# Altium footprint library KX-9A.PcbLib: 1 footprints
Each footprint in its own frame and in the unit in brackets; x right, y up, seen from the top. Pads: shape width x height; smd on the part's side, far side on the other; paste and mask are expansions set on the pad; w line width, h text height; cw(c..) or ccw(c..) is an arc to the next point about the centre after c.
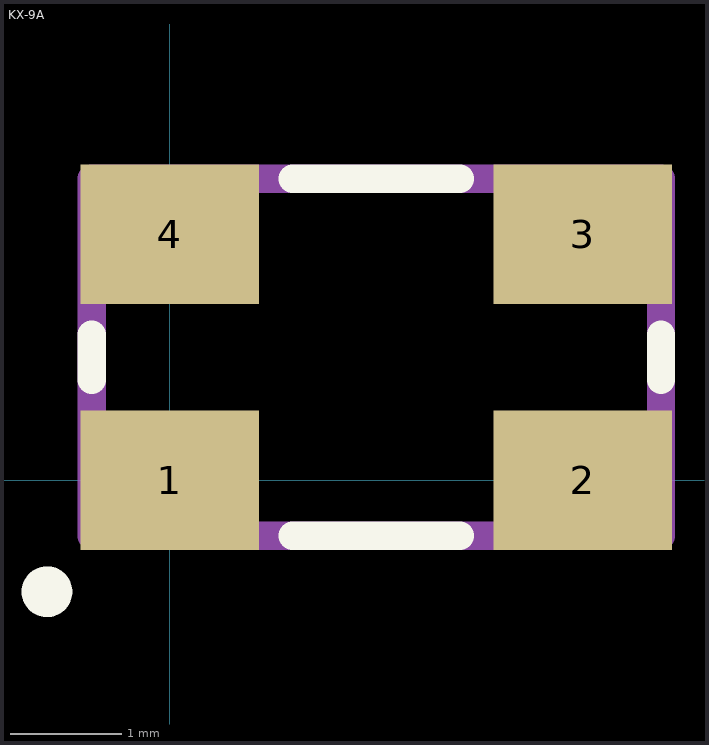
[diagram p0: the footprint, top view; thin cyan lines are the x and y axes]

## KX-9A [mm]
pads (4):
  rect 1.6x1.25 smd: 1(0,0) 2(3.7,0) 3(3.7,2.2) 4(0,2.2)
Top Overlay:
  circle w0.254: c-1.1,-1 r0.1
  lines w0.254: -0.7,0.9 -0.7,1.3 ; 1.1,-0.5 2.6,-0.5 ; 1.1,2.7 2.6,2.7 ; 4.4,0.9 4.4,1.3
TopAssy:
  lines w0.254: -0.7,-0.5 -0.7,2.7 4.4,2.7 4.4,-0.5 -0.7,-0.5
3D body "User Library-GeyerElectronics_KX9A.step": height 1.01, standoff 0, extent -0.65,-0.5 4.35,2.7